# EAGLE library part SPARKFUN-CONNECTORS_CONN_11 (library tag_key)
Multi connection point. Often used as Generic Header-pin footprint for 0.1 inch spaced/style header connections On any of the 0.1 inch spaced packages, you can populate with these: Break Away Headers - Straight <https://www.sparkfun.com/products/116> (PRT-00116) Break Away Male Headers - Right Angle <https://www.sparkfun.com/products/553> (PRT-00553) Female Headers <https://www.sparkfun.com/products/115> (PRT-00115) Break Away Headers - Machine Pin <https://www.sparkfun.com/products/117> (PRT-00117) Break Away Female Headers - Swiss Machine Pin <https://www.sparkfun.com/products/743> (PRT-00743) For SCREWTERMINALS and SPRING TERMINALS visit here: Screw Terimnals on SparkFun.com <https://www.sparkfun.com/search/results?term=Screw+Terminals> (5mm/3.5mm/2.54mm spacing) This device is also useful as a general connection point to wire up your design to another part of your project. Our various solder wires solder well into these plated through hole pads. Hook-Up Wire - Assortment (Stranded, 22 AWG) <https://www.sparkfun.com/products/11375> (PRT-11375) Hook-Up Wire - Assortment (Solid Core, 22 AWG) <https://www.sparkfun.com/products/11367> (PRT-11367) View the entire wire category on our website here <https://www.sparkfun.com/categories/141>
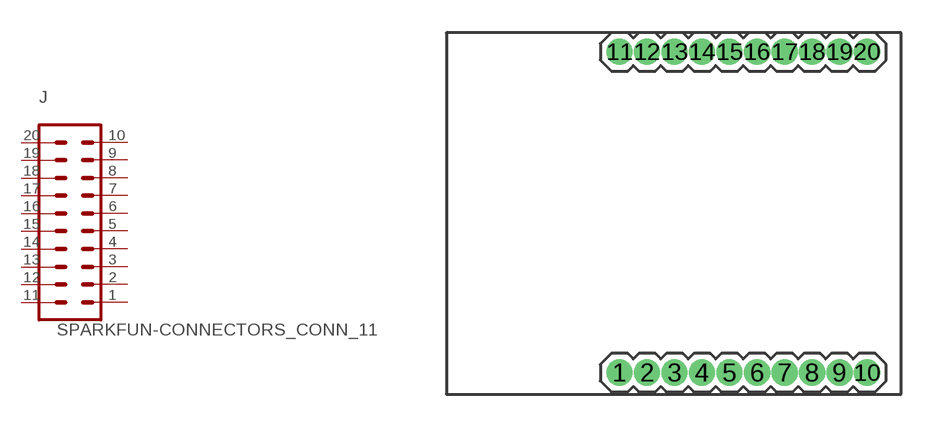
[diagram p1: symbol with the pads of SPARKFUN-CONNECTORS_1X11-1.27MM; footprint SPARKFUN-CONNECTORS_1X11-1.27MM]

Designator prefix J

## SPARKFUN-CONNECTORS_CONN_11_1.27MM  [SPARKFUN-CONNECTORS_1X11-1.27MM]
1  1  pas
2  2  pas
3  3  pas
4  4  pas
5  5  pas
6  6  pas
7  7  pas
8  8  pas
9  9  pas
10  10  pas
11  20  pas
12  19  pas
13  18  pas
14  17  pas
15  16  pas
16  15  pas
17  14  pas
18  13  pas
19  12  pas
20  11  pas

## Footprint SPARKFUN-CONNECTORS_1X11-1.27MM (pad centres in mm)
Plated Through Hole -11 Pin 1.27mm Specifications: Pin count:11 Pin pitch:1.27mm Example device(s): CONN_11
drill 0.7 pad 1.016: 1 0,0; 2 1.27,0; 3 2.54,0; 4 3.81,0; 5 5.08,0; 6 6.35,0; 7 7.62,0; 8 8.89,0; 9 10.16,0; 10 11.43,0; 11 0,14.83; 12 1.27,14.83; 13 2.54,14.83; 14 3.81,14.83; 15 5.08,14.83; 16 6.35,14.83; 17 7.62,14.83; 18 8.89,14.83; 19 10.16,14.83; 20 11.43,14.83